# EAGLE library part 66201111022 (library Wuerth_Elektronik_eiCan_08_Micro_Power_Connectors)
WR-MPC3 3.00mm Male Single Row Angled Header with Plastic Pegs, 11 Pins
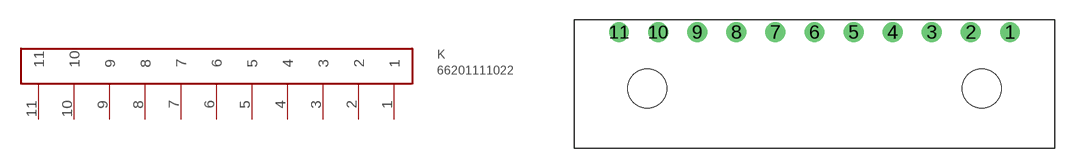
[diagram p82: symbol with the pads of 66201111022; footprint 66201111022]

Designator prefix K

## 66201111022  [66201111022]
1  1
2  2
3  3
4  4
5  5
6  6
7  7
8  8
9  9
10  10
11  11

## Footprint 66201111022 (pad centres in mm)
WR-MPC3 3.00mm Male Single Row Angled Header with Plastic Pegs, 11 Pins
drill 1.02 round: 1 1.5,0; 2 -1.5,0; 3 -4.5,0; 4 -7.5,0; 5 -10.5,0; 6 -13.5,0; 7 -16.5,0; 8 -19.5,0; 9 -22.5,0; 10 -25.5,0; 11 -28.5,0
hole 3 at -0.66,-4.32
hole 3 at -26.34,-4.32